# Altium schematic symbol library CON_06_pin_GOST.SchLib: 1 symbol
Pins are listed as number, name and electrical type; pins without a type are passive.

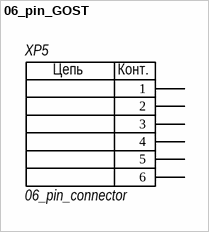
[diagram p0: symbol 06_pin_GOST]

## 06_pin_GOST
designator XP5, comment 06_pin_connector
footprint MOLEX PB6
pins: 1, 2, 3, 4, 5, 6
text: Цепь; Конт.